# Altium schematic symbol library BCR.SchLib: 11 symbols
Pins are listed as number, name and electrical type; pins without a type are passive.

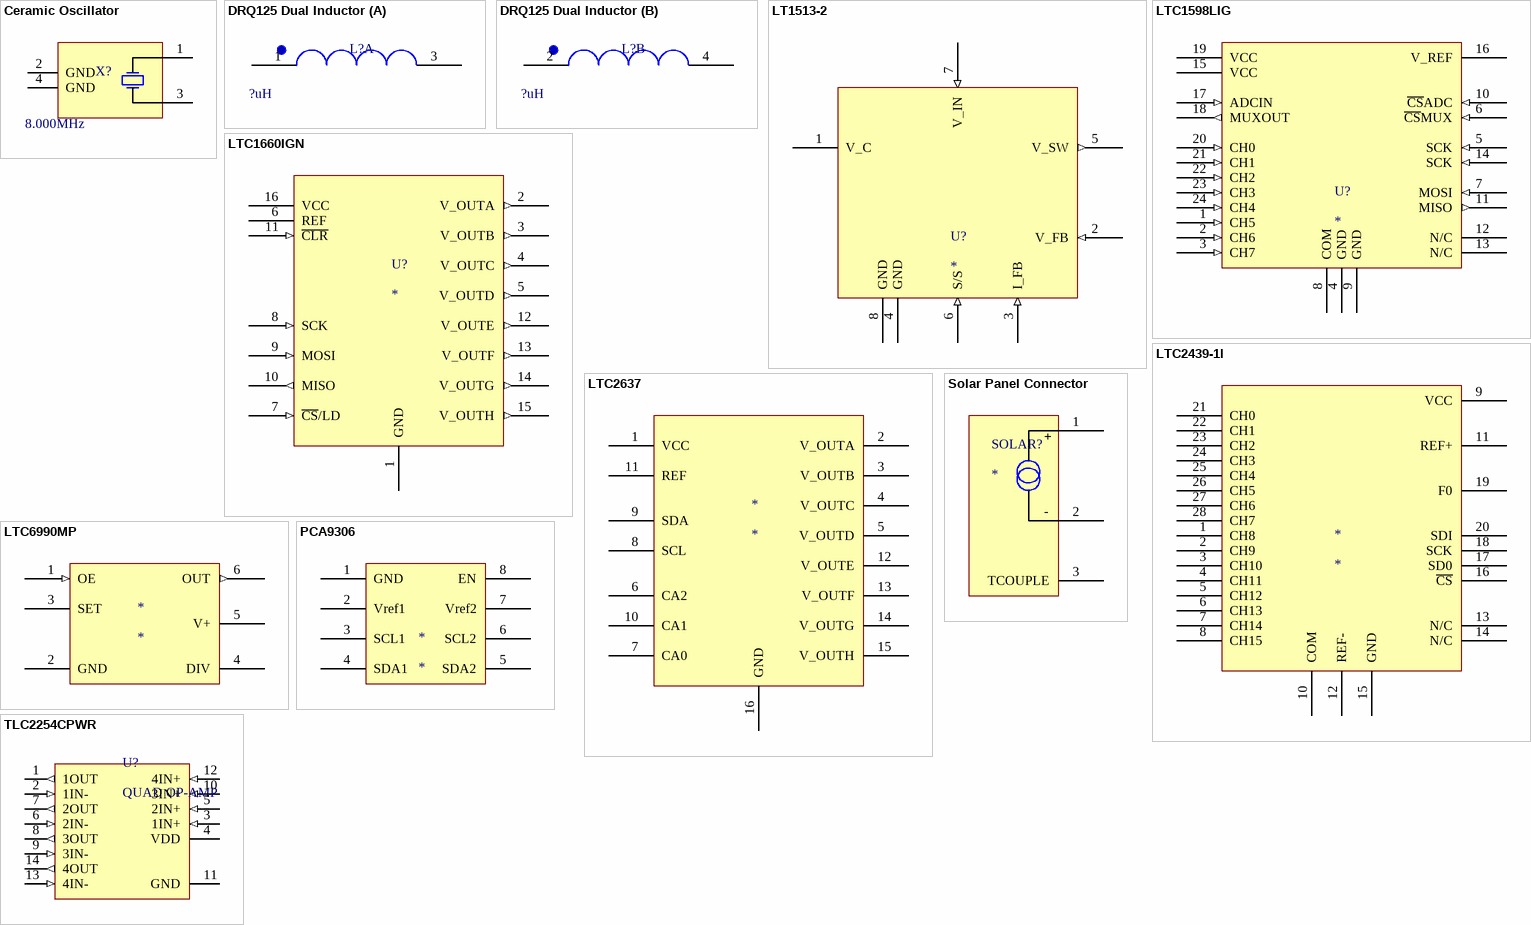
[diagram p0: symbols Ceramic Oscillator to TLC2254CPWR]

## Ceramic Oscillator
designator X?  Frequency: 8.000MHz  (hidden comment: *)
footprint Crystal Oscillator 5x7mm
pins: 1 OSC1, 2 GND, 3 OSC2, 4 GND

## DRQ125 Dual Inductor
designator L?  value ?uH  (hidden comment: *)
footprint DRQ125
part A pins: 1 17, 3 18
part B pins: 2 17, 4 18

## LT1513-2
designator U?
footprint TO152P1396X238-8N (D2-PAK, 8-Pads, Body 9.4x10.5mm (max), IPC Medium Density)
pins: 1 V_C, 2 V_FB (in), 3 I_FB (in), 4 GND, 5 V_SW (out), 6 S/S (in), 7 V_IN (in), 8 GND

## LTC1598LIG
designator U?
footprint SOP65P780-24N (SOP, 24-Leads, Body 8.2x5.3mm, Pitch 0.65mm, IPC Medium Density)
pins: 1 CH5 (in), 2 CH6 (in), 3 CH7 (in), 4 GND, 5 SCK (in), 6 ~{CS}MUX (in), 7 MOSI (in), 8 COM, 9 GND, 10 ~{CS}ADC (in), 11 MISO (out), 12 N/C, 13 N/C, 14 SCK (in), 15 VCC, 16 V_REF, 17 ADCIN (in), 18 MUXOUT (out), 19 VCC, 20 CH0 (in), 21 CH1 (in), 22 CH2 (in), 23 CH3 (in), 24 CH4 (in)

## LTC1660IGN
designator U?
footprint SOP635P600-16N (SOP, 16-Leads, Body 4.9x3.9mm, Pitch 0.635mm, IPC Medium Density)
pins: 1 GND, 2 V_OUTA (out), 3 V_OUTB (out), 4 V_OUTC (out), 5 V_OUTD (out), 6 REF, 7 ~{CS}/LD (in), 8 SCK (in), 9 MOSI (in), 10 MISO (out), 11 ~{CLR} (in), 12 V_OUTE (out), 13 V_OUTF (out), 14 V_OUTG (out), 15 V_OUTH (out), 16 VCC

## LTC2439-1l
designator *
pins: 1 CH8, 2 CH9, 3 CH10, 4 CH11, 5 CH12, 6 CH13, 7 CH14, 8 CH15, 9 VCC, 10 COM, 11 REF+, 12 REF-, 13 N/C, 14 N/C, 15 GND, 16 ~{CS}, 17 SD0, 18 SCK, 19 F0, 20 SDI, 21 CH0, 22 CH1, 23 CH2, 24 CH3, 25 CH4, 26 CH5, 27 CH6, 28 CH7

## LTC2637
designator *
footprint LTC2637
pins: 1 VCC, 2 V_OUTA, 3 V_OUTB, 4 V_OUTC, 5 V_OUTD, 6 CA2, 7 CA0, 8 SCL, 9 SDA, 10 CA1, 11 REF, 12 V_OUTE, 13 V_OUTF, 14 V_OUTG, 15 V_OUTH, 16 GND

## LTC6990MP
designator *
pins: 1 OE (in), 2 GND, 3 SET, 4 DIV, 5 V+, 6 OUT (out)

## PCA9306
designator *
footprint TSSOP50P310X90-8N (TSSOP, 8-Leads, Body 2.1x2.4mm (max), Pitch 0.50mm, IPC Medium Density)
pins: 1 GND, 2 Vref1, 3 SCL1, 4 SDA1, 5 SDA2, 6 SCL2, 7 Vref2, 8 EN

## Solar Panel Connector
designator SOLAR?
footprint 5.05mm Terminal Block - 3
pins: 1 PANEL+, 2 PANEL-, 3 TCOUPLE
text: +; -

## TLC2254CPWR
designator U?, comment QUAD OP-AMP
IC OPAMP QUAD 14-TSSOP
footprint TSOP65P640-14AN (TSOP, 14-Leads, Body 5x4.4mm, Pitch 0.65mm, IPC Medium Density)
pins: 1 1OUT (out), 2 1IN- (in), 3 1IN+ (in), 4 VDD, 5 2IN+ (in), 6 2IN- (in), 7 2OUT (out), 8 3OUT (out), 9 3IN- (in), 10 3IN+ (in), 11 GND, 12 4IN+ (in), 13 4IN- (in), 14 4OUT (out)